# Altium schematic symbol library 533980371.SchLib: 1 symbol
Pins are listed as number, name and electrical type; pins without a type are passive.

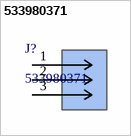
[diagram p0: symbol 533980371]

## 533980371
designator J?
1.25mm Pitch, PicoBlade PCB Header, Single Row, Vertical, Surface Mount,  Tin (Sn) Plating, Friction Lock, 3 Circuits, Tape and Reel, 0.60mm PC Tail Length; Manufacturer_Name: Molex Connector Corporation; Copyright: Copyright (C) 2025 Ultra Librarian. All rights reserved.; Manufacturer_Part_Number: 533980371; RefDes: RefDes; Type: Type
footprint CONN_53398_03_MOL
pins: 1, 2, 3